# EAGLE library part TPIC6B273 (library My Library-adm)
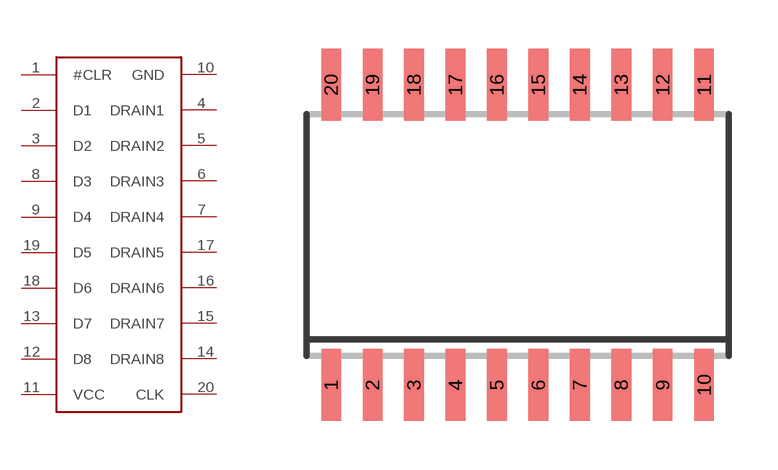
[diagram p7: symbol with the pads of SO-20DW; footprint SO-20DW]

Designator prefix -

## TPIC6B273  [SO-20DW]
1  #CLR
2  D1
3  D2
4  DRAIN1
5  DRAIN2
6  DRAIN3
7  DRAIN4
8  D3
9  D4
10  GND
11  VCC
12  D8
13  D7
14  DRAIN8
15  DRAIN7
16  DRAIN6
17  DRAIN5
18  D6
19  D5
20  CLK

## Footprint SO-20DW (pad centres in mm)
Small Outline Integrated Circuit wide
smd 0.6 x 2.2: 1 -5.715,-4.6; 2 -4.445,-4.6; 3 -3.175,-4.6; 4 -1.905,-4.6; 5 -0.635,-4.6; 6 0.635,-4.6; 7 1.905,-4.6; 8 3.175,-4.6; 9 4.445,-4.6; 10 5.715,-4.6; 11 5.715,4.6; 12 4.445,4.6; 13 3.175,4.6; 14 1.905,4.6; 15 0.635,4.6; 16 -0.635,4.6; 17 -1.905,4.6; 18 -3.175,4.6; 19 -4.445,4.6; 20 -5.715,4.6